# Altium schematic symbol library Wurth_Electronics_744777930.SchLib: 1 symbol
Pins are listed as number, name and electrical type; pins without a type are passive.

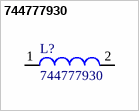
[diagram p0: symbol 744777930]

## 744777930
designator L?
SMD-Shielded Power Inductor WE-PD, L = 1000 µH; Inductance: 1000 ÂµH; ComponentLink1Description: Manufacturer Link; ComponentLink2Description: Datasheet; DatasheetVersion: ver 10, Jan-2008; ComponentLink1URL: http://www.we-online.com; PackageVersion: 2008; PackageDescription: SMD Inductor, 2-Leads, Body 7.3 x 7.3 mm; ComponentLink2URL: http://www.we-online.de/katalog/media/pdf/744777930.pdf; PackageReference: WE-PD-M-PB; PartNumber: 744777930
footprint WE-PD-M-PB
pins: 1, 2